# Altium integrated library SnapEDA_Library.IntLib: 9 symbols
Pins are listed as number, name and electrical type; pins without a type are passive.

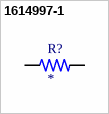
[diagram p0: symbol 1614997-1]

## 1614997-1
designator R?
LR0204 1% 13K3; MP: 1614997-1; MF: {'manufacturer': u'TE Connectivity'}; Value: *; Price: None; Package: None; Availability: Unavailable
footprint RESAD640W45L370D200
pins: 1, 2


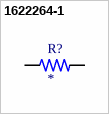
[diagram p1: symbol 1622264-1]

## 1622264-1
designator R?
LR0204 1% 62K; MP: 1622264-1; MF: {'manufacturer': u'TE Connectivity'}; Package: None; Price: None; Availability: Unavailable; Value: *
footprint RESAD640W45L370D200
pins: 1, 2


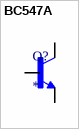
[diagram p2: symbol BC547A]

## BC547A
designator Q?
Transistor NPN BC547A PHILIPS miliampere=100 TO92; MF: {'manufacturer': u'ON Semiconductor'}; MP: BC547A; Value: *; Price: None; Package: None; Availability: Unavailable
footprint TO92260P520H877-3
pins: 1 C, 2 B, 3 E


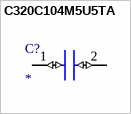
[diagram p3: symbol C320C104M5U5TA]

## C320C104M5U5TA
designator C?
<b>KEMET 100nF Multilayer Ceramic Capacitor MLCC 50V dc +/-20% Z5U Dielectric C320, Max. Temp. +85C</b><p> Source: <a href="https://content.kemet.com/datasheets/KEM_C1051_GOLDMAX_Z5U.pdf"> Datasheet </a>; MP: C320C104M5U5TA; MF: {'manufacturer': u'KEMET'}; Value: *; Price: None; Package: None; Availability: Unavailable
footprint C320C
pins: 1 (io), 2 (io)


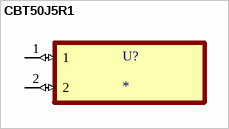
[diagram p4: symbol CBT50J5R1]

## CBT50J5R1
designator U?
MP: CBT50J5R1; MF: {'manufacturer': u'TE Connectivity / AMP'}; Value: *; Price: None; Package: None; Availability: Unavailable
footprint RESAD640W45L370D200
pins: 1 (io), 2 (io)


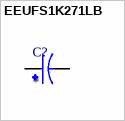
[diagram p5: symbol EEUFS1K271LB]

## EEUFS1K271LB
designator C?
FS-A; MP: EEUFS1K271LB; MF: {'manufacturer': u'Panasonic'}; Value: *; Price: None; Package: None; Availability: Unavailable
footprint CAPPRD500W60D1000H2500
pins: N, P


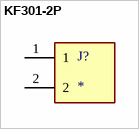
[diagram p6: symbol KF301-2P]

## KF301-2P
designator J?
2 Pin Terminal Block 5mm Pitch; MP: KF301-2P; MF: {'manufacturer': u'Handson Technology'}; Value: *; Price: None; Package: None; Availability: Unavailable
footprint HANDSON_KF301-2P
pins: 1, 2


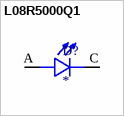
[diagram p7: symbol L08R5000Q1]

## L08R5000Q1
designator D?
LED, Orange, Through Hole, T-1 3/4 (5mm), 30 mA, 2.1 V, 635 nm; MP: L08R5000Q1; MF: {'manufacturer': u'LED Technology'}; Value: *; Price: None; Package: None; Availability: Unavailable
footprint LEDRD254W57D500H1070
pins: A, C


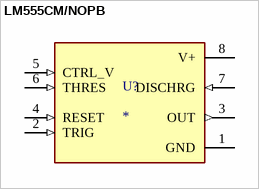
[diagram p8: symbol LM555CM/NOPB]

## LM555CM/NOPB
designator U?
MP: LM555CM/NOPB; MF: {'manufacturer': u'ON Semiconductor'}; Package: None; Price: None; Availability: Unavailable; Value: *
footprint SOIC127P600X175-8N
pins: 1 GND (power), 2 TRIG (in), 3 OUT (out), 4 RESET (in), 5 CTRL_V (in), 6 THRES (in), 7 DISCHRG (in), 8 V+ (power)